# Altium schematic symbol library C1608X5R1V335K080AC.SchLib: 1 symbol
Pins are listed as number, name and electrical type; pins without a type are passive.

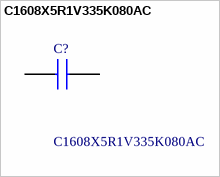
[diagram p0: symbol C1608X5R1V335K080AC]

## C1608X5R1V335K080AC
designator C?
MULTILAYER CERAMIC CHIP CAPACITORS, 1608, Commercial grade, general (Up to 75V); Manufacturer_Name: TDK; Geometry.Height: 0.8mm; Manufacturer_Part_Number: C1608X5R1V335K080AC; Mouser Part Number: 810-C1608X5R1V335KAC; Mouser Price/Stock: https://www.mouser.co.uk/ProductDetail/TDK/C1608X5R1V335K080AC?qs=6JAMGB%252BEdkxQo4ed2qmVpg%3D%3D; Arrow Part Number: C1608X5R1V335K080AC; Arrow Price/Stock: https://www.arrow.com/en/products/c1608x5r1v335k080ac/tdk; Datasheet Link: https://product.tdk.com/info/en/catalog/datasheets/mlcc_commercial_midvoltage_en.pdf
footprint CAPC1608X80N
pins: 1, 2